# Altium schematic symbol library IC Power Driver.SchLib: 1 symbol
Pins are listed as number, name and electrical type; pins without a type are passive.

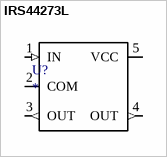
[diagram p0: symbol IRS44273L]

## IRS44273L
designator U?
Name: *
pins: 1 IN (in), 2 COM (power), 3 OUT (out), 4 OUT (out), 5 VCC (power)